# Altium footprint library 2021-06-15_16-45-07.PcbLib: 1 footprints
Each footprint in its own frame and in the unit in brackets; x right, y up, seen from the top. Pads: shape width x height; smd on the part's side, far side on the other; paste and mask are expansions set on the pad; w line width, h text height; cw(c..) or ccw(c..) is an arc to the next point about the centre after c.
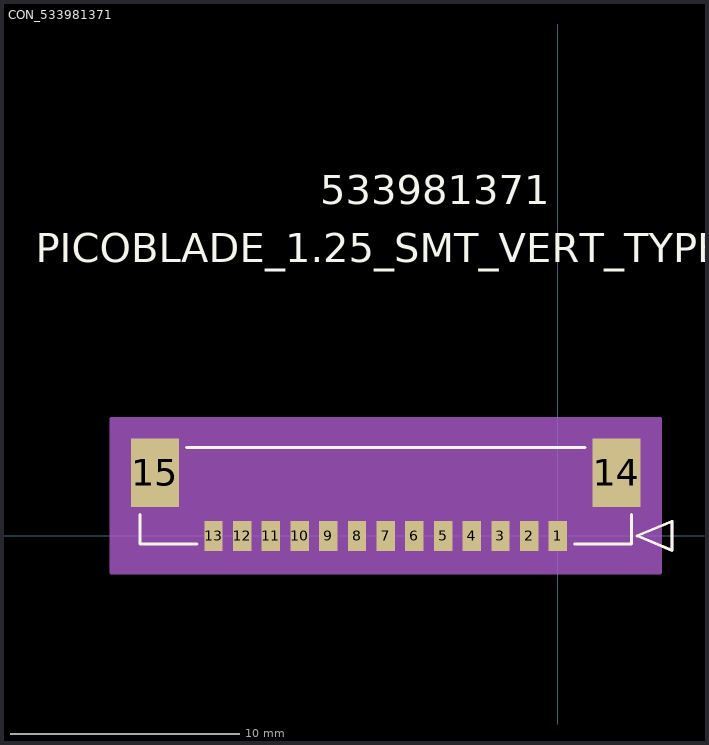
[diagram p0: the footprint, top view; thin cyan lines are the x and y axes]

## CON_533981371 [mm]
pads (15):
  rect 0.8x1.3 smd paste+0 mask+0.076: 1(0,0) 2(-1.25,0) 3(-2.5,0) 4(-3.75,0) 5(-5,0) 6(-6.25,0) 7(-7.5,0) 8(-8.75,0) 9(-10,0) 10(-11.25,0) 11(-12.5,0) 12(-13.75,0) 13(-15,0)
  rect 2.1x3 smd paste+0 mask+0.076: 14(2.55,2.75) 15(-17.55,2.75)
Top Overlay:
  lines w0.127: -18.2,0.93 -18.2,-0.35 -15.72,-0.35 ; -16.18,3.85 1.18,3.85 ; 0.72,-0.35 3.2,-0.35 3.2,0.93 ; 3.454,0 4.978,0.635 4.978,-0.635 3.454,0
  text "533981371" at -10.358,14.45 h1.27
  text "PICOBLADE_1.25_SMT_VERT_TYPE_TIN_PLATING_-13_CKT" at -22.74,11.91 h1.27
Mechanical 3:
  text "NOTE" at -18.2,-7.58 h1.27
  text "RECOMMENDED_PCB_THICKNESS:_1.0_MM" at -18.2,-10.12 h1.27
  text "MAXIMUM_PACKAGE_HEIGHT:_4.7_MM" at -18.2,-12.66 h1.27
Mechanical 5:
  region: -18.581,4.231 3.581,4.231 3.581,-0.731 -18.581,-0.731
Mechanical 10:
  text "NOTE" at -18.2,-7.58 h1.27
  text "RECOMMENDED_PCB_THICKNESS:_1.0_MM" at -18.2,-10.12 h1.27
  text "MAXIMUM_PACKAGE_HEIGHT:_4.7_MM" at -18.2,-12.66 h1.27
Mechanical 13:
  lines w0.127: -18.2,-0.35 3.2,-0.35 3.2,3.85 -18.2,3.85 -18.2,-0.35 ; 3.454,0 4.978,0.635 4.978,-0.635 3.454,0
  text "533981371" at -10.358,14.45 h1.27
  text "PICOBLADE_1.25_SMT_VERT_TYPE_TIN_PLATING_-13_CKT" at -22.74,11.91 h1.27
Mechanical 15:
  region: 4.47,5.12 -19.47,5.12 -19.47,-1.62 4.47,-1.62
  lines w0.127: -19.47,-1.62 -19.47,5.12 4.47,5.12 4.47,-1.62 -19.47,-1.62
3D body: height 0.25, standoff 0, extent 0,0 0.254,0.254